# Altium footprint library PCB - LEADED - SOP - TI MSOP-10 DGS.PCBLIB: 1 footprints
Each footprint in its own frame and in the unit in brackets; x right, y up, seen from the top. Pads: shape width x height; smd on the part's side, far side on the other; paste and mask are expansions set on the pad; w line width, h text height; cw(c..) or ccw(c..) is an arc to the next point about the centre after c.
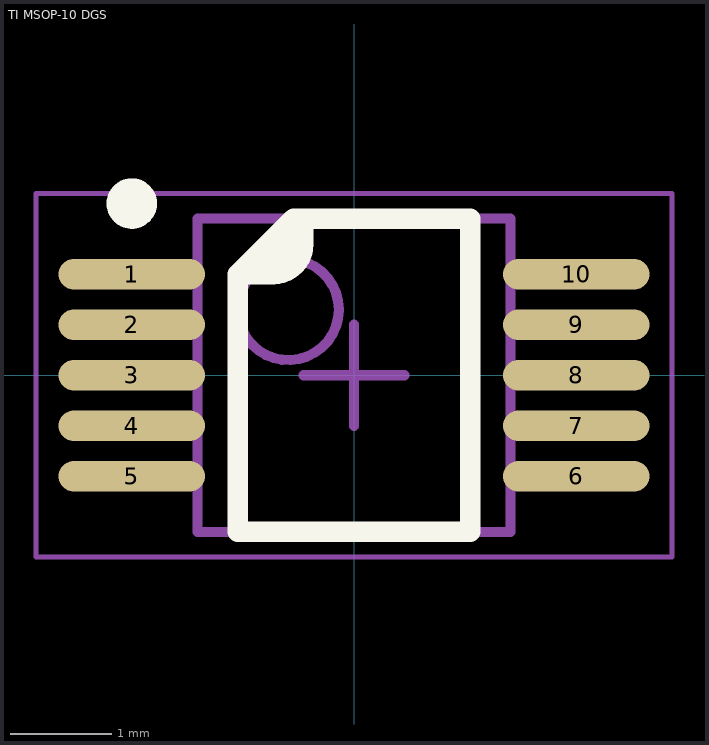
[diagram p0: the footprint, top view; thin cyan lines are the x and y axes]

## TI MSOP-10 DGS [mm] "MSOP, 10-Leads, Body 3.00x3.00mm, Pitch 0.50mm, IPC Medium Density"
height 1.1
pads (10):
  oval 1.45x0.3 smd: 1(-2.2,1) 2(-2.2,0.5) 3(-2.2,0) 4(-2.2,-0.5) 5(-2.2,-1) 6(2.2,-1) 7(2.2,-0.5) 8(2.2,0) 9(2.2,0.5) 10(2.2,1)
Top Overlay:
  circle w0.25: c-2.2,1.7 r0.125
  region: -0.5,1.55 -0.6,1.55 -1.15,1 -0.6,1 -0.5,1.1
  lines w0.2: -0.5,1.55 -0.5,1.3 cw(c-0.8,1.3) -0.8,1 -1.15,1 ; -1.15,1 -1.15,-1.55 1.15,-1.55 1.15,1.55 -0.6,1.55 -1.15,1
Mechanical 13:
  circle w0.1: c-0.65,0.65 r0.5
  lines w0.1: -1.55,-1.55 1.55,-1.55 1.55,1.55 -1.55,1.55 -1.55,-1.55
Mechanical 15:
  lines w0.05: -3.15,-1.8 3.15,-1.8 3.15,1.8 -3.15,1.8 -3.15,-1.8
  lines w0.1: -0.5,0 0.5,0 ; 0,-0.5 0,0.5
3D body "TI MSOP-10 DGS.step": height 1.1, standoff 0, extent -2.45,-1.55 2.45,1.55